# EAGLE library part XSM-108-SV (library Marvin)
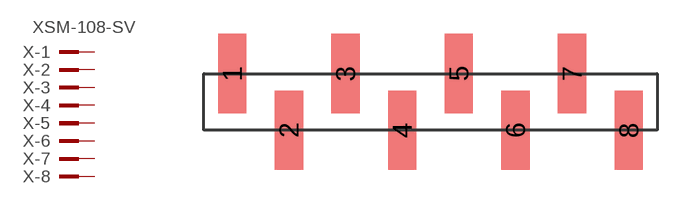
[diagram p20: symbol with the pads of XSM-108-SV; footprint XSM-108-SV]

Designator prefix X; gates -1=PINV -2=PIN-1 -3=PIN-1 -4=PIN-1 -5=PIN-1 -6=PIN-1 -7=PIN-1 -8=PIN-1

## XSM-108-SV  [XSM-108-SV]
1  -1:KL  pas
2  -2:KL  pas
3  -3:KL  pas
4  -4:KL  pas
5  -5:KL  pas
6  -6:KL  pas
7  -7:KL  pas
8  -8:KL  pas

## Footprint XSM-108-SV (pad centres in mm)
smd 1.27 x 3.556: 1 -8.89,1.27; 2 -6.35,-1.27; 3 -3.81,1.27; 4 -1.27,-1.27; 5 1.27,1.27; 6 3.81,-1.27; 7 6.35,1.27; 8 8.89,-1.27